# Altium footprint library ECE Lib3.PcbLib: 39 footprints (part 2 of 3)
Each footprint in its own frame and in the unit in brackets; x right, y up, seen from the top. Pads: shape width x height; smd on the part's side, far side on the other; paste and mask are expansions set on the pad; w line width, h text height; cw(c..) or ccw(c..) is an arc to the next point about the centre after c.
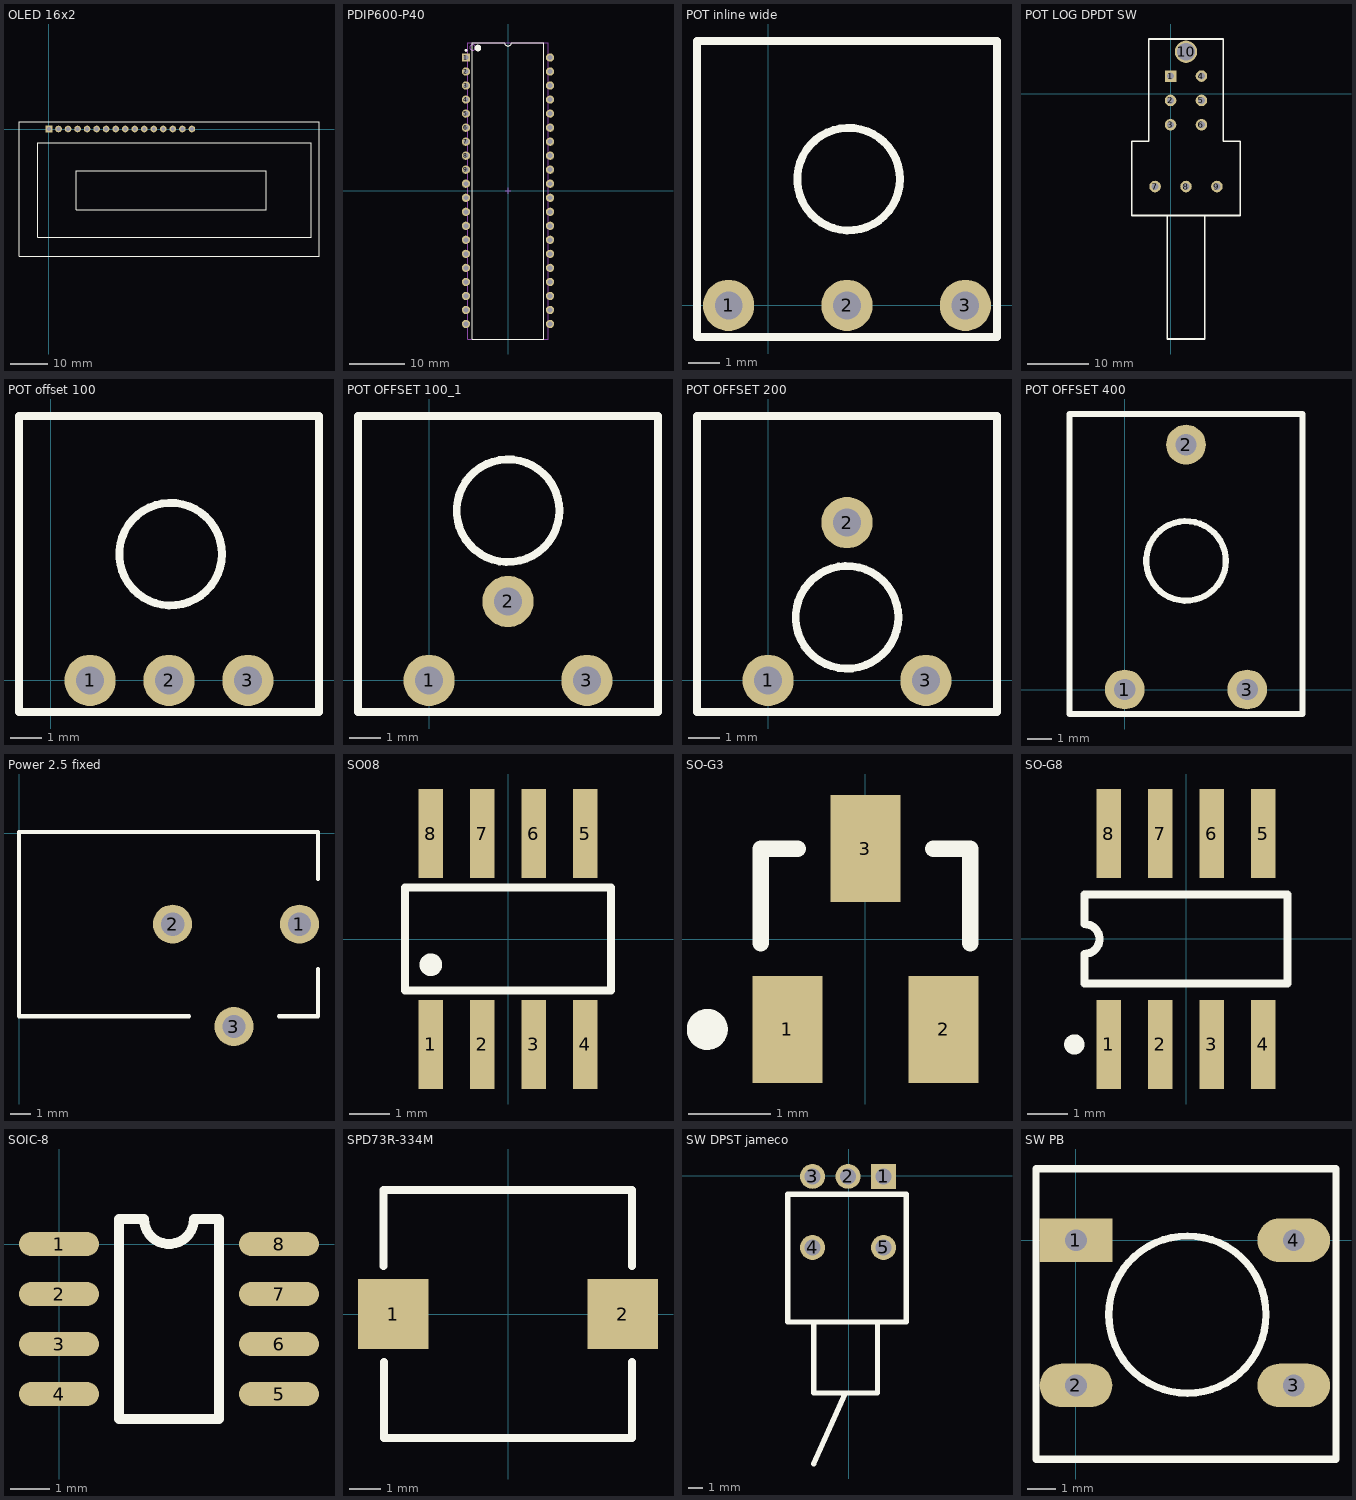
[diagram p1: the footprints below, top view; thin cyan lines are the x and y axes]

## OLED 16x2 [mil]
pads (16):
  rect 70x70 hole 40: 1(0,0)
  round 70 hole 40: 2(100,0) 3(200,0) 4(300,0) 5(400,0) 6(500,0) 7(600,0) 8(700,0) 9(800,0) 10(900,0) 11(1000,0) 12(1100,0) 13(1200,0) 14(1300,0) 15(1400,0) 16(1500,0)
Top Overlay:
  lines w10: -314.96,-1338.58 2834.65,-1338.58 2834.65,78.74 -314.96,78.74 -314.96,-1338.58 ; -120.08,-1137.8 2753.94,-1137.8 2753.94,-145.67 -120.08,-145.67 -120.08,-1137.8 ; 283.86,-845.67 283.86,-437.8 2278.94,-437.8 2278.94,-845.67 283.86,-845.67

## PDIP600-P40 [mm]
pads (40):
  rect 1.5x1.5 hole 0.9: 1(-7.62,24.13)
  round 1.5 hole 0.9: 2(-7.62,21.59) 3(-7.62,19.05) 4(-7.62,16.51) 5(-7.62,13.97) 6(-7.62,11.43) 7(-7.62,8.89) 8(-7.62,6.35) 9(-7.62,3.81) 10(-7.62,1.27) 11(-7.62,-1.27) 12(-7.62,-3.81) 13(-7.62,-6.35) 14(-7.62,-8.89) 15(-7.62,-11.43) 16(-7.62,-13.97) 17(-7.62,-16.51) 18(-7.62,-19.05) 19(-7.62,-21.59) 20(-7.62,-24.13) 21(7.62,-24.13) 22(7.62,-21.59) 23(7.62,-19.05) 24(7.62,-16.51) 25(7.62,-13.97) 26(7.62,-11.43) 27(7.62,-8.89) 28(7.62,-6.35) 29(7.62,-3.81) 30(7.62,-1.27) 31(7.62,1.27) 32(7.62,3.81) 33(7.62,6.35) 34(7.62,8.89) 35(7.62,11.43) 36(7.62,13.97) 37(7.62,16.51) 38(7.62,19.05) 39(7.62,21.59) 40(7.62,24.13)
Top Overlay:
  circle w0.6: c-5.45,25.85 r0.3
  circle w0.25: c-7.62,25.43 r0.125
  lines w0.2: -6.45,-26.85 6.45,-26.85 6.45,26.85 0.635,26.85 cw(c0,26.85) -0.635,26.85 -6.45,26.85 -6.45,-26.85
Mechanical 13:
  circle w0.1: c-6.4,25.95 r0.5
  lines w0.1: -7.3,-26.85 7.3,-26.85 7.3,26.85 -7.3,26.85 -7.3,-26.85
Mechanical 15:
  lines w0.1: -0.5,0 0.5,0 ; 0,-0.5 0,0.5
3D body: height 6.35, standoff 0, extent -7.3,-26.85 7.3,26.85

## POT inline wide [mil]
pads (3):
  round 65 hole 35: 1(-50,0) 2(100,0) 3(250,0)
Top Overlay:
  circle w10: c102,160 r65
  lines w10: -90,-40 290,-40 290,335 -90,335 -90,-40

## POT LOG DPDT SW [mil]
pads (10):
  rect 75x75 hole 45: 1(0,115)
  round 75 hole 45: 2(0,-42.5) 3(0,-200) 4(200,115) 5(200,-42.5) 6(200,-200) 7(-100,-600) 8(100,-600) 9(300,-600)
  round 145 hole 115: 10(100,272.5)
Top Overlay:
  lines w10: -20,-787.5 -20,-1587 220,-1587 220,-787.5 ; -250,-787.5 450,-787.5 450,-307.5 340,-307.5 340,355 -140,355 -140,-307.5 -250,-307.5 -250,-787.5

## POT offset 100 [mil]
pads (3):
  round 65 hole 35: 1(50,0) 2(150,0) 3(250,0)
Top Overlay:
  circle w10: c152,160 r65
  lines w10: -40,-40 -40,335 340,335 340,-40 -40,-40

## POT OFFSET 100_1 [mil]
pads (3):
  round 65 hole 35: 1(0,0) 2(100,100) 3(200,0)
Top Overlay:
  circle w10: c100,215 r65
  lines w10: -90,-40 -90,335 290,335 290,-40 -90,-40

## POT OFFSET 200 [mil]
pads (3):
  round 65 hole 35: 1(0,0) 2(100,200) 3(200,0)
Top Overlay:
  circle w10: c100,80 r65
  lines w10: -90,-40 -90,335 290,335 290,-40 -90,-40

## POT OFFSET 400 [mil]
pads (3):
  round 65 hole 35: 1(0,0) 2(100,400) 3(200,0)
Top Overlay:
  circle w10: c100,210 r65
  lines w10: -90,-40 290,-40 290,450 -90,450 -90,-40

## Power 2.5 fixed [mm]
pads (3):
  round 1.905 hole 1.143: 1(13.7,-4.445) 2(7.5,-4.445) 3(10.5,-9.445)
Top Overlay:
  lines w0.2: 8.3,-8.945 0,-8.945 0,0.055 14.6,0.055 14.6,-2.245 ; 12.7,-8.945 14.6,-8.945 14.6,-6.645

## SO08 [mm]
pads (8):
  rect 0.6x2.2 smd: 1(-1.905,-2.6) 2(-0.635,-2.6) 3(0.635,-2.6) 4(1.905,-2.6) 5(1.905,2.6) 6(0.635,2.6) 7(-0.635,2.6) 8(-1.905,2.6)
Top Overlay:
  circle w0.305: c-1.905,-0.635 r0.127
  lines w0.203: -2.54,-1.27 2.54,-1.27 2.54,1.27 -2.54,1.27 -2.54,-1.27

## SO-G3 [mm]
pads (3):
  rect 0.85x1.3 smd: 1(-0.95,-1.1) 2(0.95,-1.1) 3(0,1.1)
Top Overlay:
  circle w0.25: c-1.925,-1.1 r0.125
  lines w0.2: -1.275,-0.05 -1.275,1.1 -0.825,1.1 ; 0.825,1.1 1.275,1.1 1.275,-0.05

## SO-G8 [mm]
pads (8):
  rect 0.6x2.2 smd: 1(-1.905,-2.6) 2(-0.635,-2.6) 3(0.635,-2.6) 4(1.905,-2.6) 5(1.905,2.6) 6(0.635,2.6) 7(-0.635,2.6) 8(-1.905,2.6)
Top Overlay:
  circle w0.25: c-2.755,-2.6 r0.125
  lines w0.2: -2.5,-1.1 -2.5,-0.367 ccw(c-2.5,0) -2.5,0.367 -2.5,1.1 2.5,1.1 2.5,-1.1 -2.5,-1.1

## SOIC-8 [mil]
pads (8):
  oval 80x24 smd: 1(0,0) 2(0,-50) 3(0,-100) 4(0,-150) 5(220,-150) 6(220,-100) 7(220,-50) 8(220,0)
Top Overlay:
  lines w10: 60,-175 60,25 85,25 ccw(c110,25) 135,25 160,25 160,-175 60,-175

## SPD73R-334M [mil]
pads (2):
  rect 88x88 smd: 1(-143.5,0) 2(143.5,0)
Top Overlay:
  lines w10: -155.5,60 -155.5,155 ; -155,-60 -155,-155 155,-155 155,-60 ; -155,155 155,155 155,60

## SW DPST jameco [mil]
pads (5):
  rect 70x70 hole 45: 1(97.64,-1.89)
  round 70 hole 45: 2(-2.36,-1.89) 3(-102.36,-1.89) 4(-102.36,-201.89) 5(97.64,-201.89)
Top Overlay:
  lines w15: -99.36,-811.83 -9.27,-611.83 ; -99.36,-411.89 -99.36,-611.89 80.64,-611.89 80.64,-411.89 ; -172.36,-411.89 161.64,-411.89 161.64,-51.89 -172.36,-51.89 -172.36,-411.89

## SW PB [mil]
pads (4):
  rect 100x60 hole 30: 1(0,0)
  oval 100x60 hole 30: 2(0,-200) 3(300,-200) 4(300,0)
Top Overlay:
  circle w10: c153.54,-102.36 r108.32
  lines w10: -55.12,-301.57 358.27,-301.57 358.27,98.43 -55.12,98.43 -55.12,-301.57